# EAGLE library part LVLSHIFTER (library mqp_custom_parts)
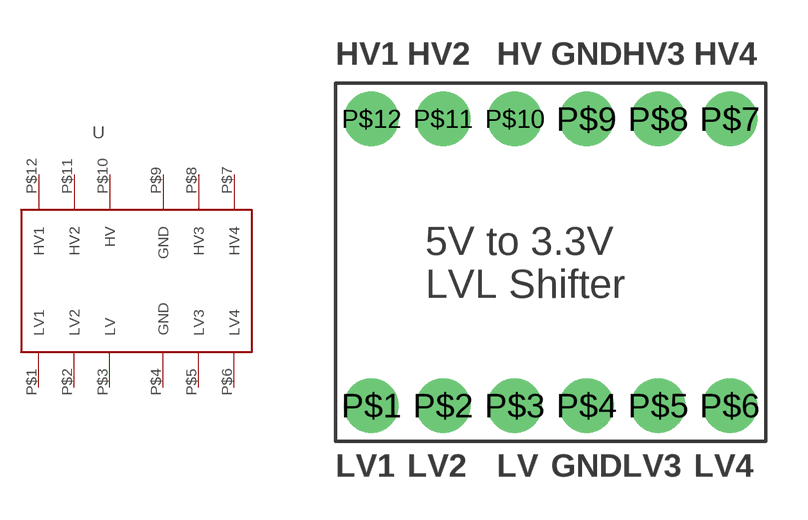
[diagram p3: symbol with the pads of LVLSFT_PAC; footprint LVLSFT_PAC]

Designator prefix -

## LVLSHIFTER  [LVLSFT_PAC]
P$1  LV1
P$2  LV2
P$3  LV
P$4  GND
P$5  LV3
P$6  LV4
P$7  HV4
P$8  HV3
P$9  GND
P$10  HV
P$11  HV2
P$12  HV1

## Footprint LVLSFT_PAC (pad centres in mm)
drill 1 pad 1.93: P$1 -6.35,-5.08; P$2 -3.81,-5.08; P$3 -1.27,-5.08; P$4 1.27,-5.08; P$5 3.81,-5.08; P$6 6.35,-5.08; P$7 6.35,5.08; P$8 3.81,5.08; P$9 1.27,5.08; P$10 -1.27,5.08; P$11 -3.81,5.08; P$12 -6.35,5.08